# EAGLE library part CONNECTOR-8_?_* (library LM555-SHAYAN-NOORANI)
8 Pin Connector
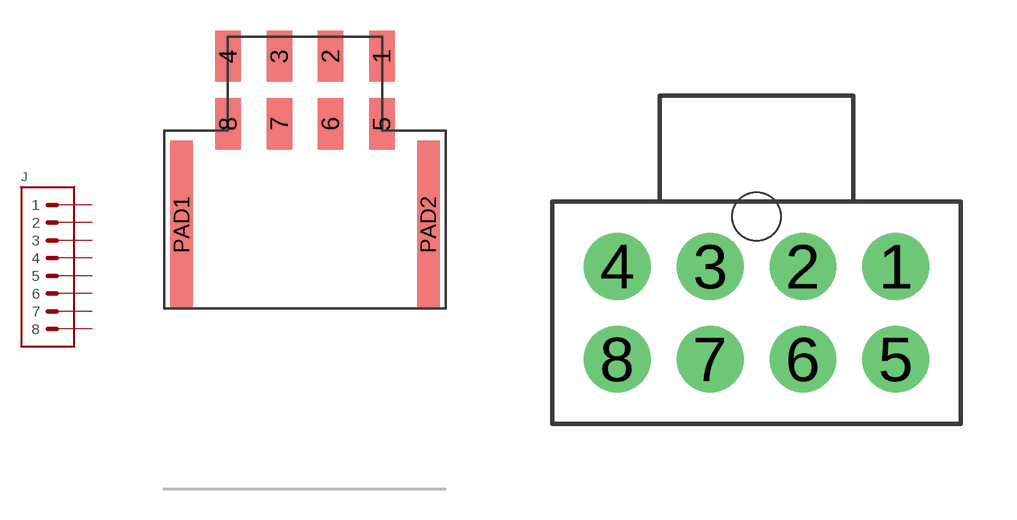
[diagram p9: symbol with the pads of MOLEX_NANOFIT_SMD_RIGHTANGLE_08; footprints MOLEX_NANOFIT_SMD_RIGHTANGLE_08, MOLEX_NANOFIT_PTH_08]

Designator prefix J

## CONNECTOR-8_NF_S_RA_BLACK (DKPN: 1054051308-ND; MANUFACTURER: Molex; MOPN: 538-105405-1308; MPN: 105405-1308)  [MOLEX_NANOFIT_SMD_RIGHTANGLE_08]
1  1  pas
2  2  pas
3  3  pas
4  4  pas
5  5  pas
6  6  pas
7  7  pas
8  8  pas

## CONNECTOR-8_NF_T_V_BLACK (DKPN: WM15063-ND; MANUFACTURER: Molex; MOPN: 538-105310-1308; MPN: 105310-1308), CONNECTOR-8_NF_T_V_NATURAL (DKPN: WM15077-ND; MANUFACTURER: Molex; MOPN: 538-105310-2308; MPN: 105310-2308)  [MOLEX_NANOFIT_PTH_08]
Pads as for MOLEX_NANOFIT_SMD_RIGHTANGLE_08

## CONNECTOR-8_μF_S_RA_ (DKPN: WM1834CT-ND; MANUFACTURER: Molex; MOPN: 538-43045-0811; MPN: 0430450811)  [MOLEX_MICROFIT_SMD_RIGHTANGLE_08_DUAL]
Pads as for MOLEX_NANOFIT_SMD_RIGHTANGLE_08

## CONNECTOR-8_μF_T_V_BLACK (DKPN: WM1798-ND; MANUFACTURER: Molex; MOPN: 538-43045-0814; MPN: 430450814)  [MOLEX_MICROFIT_PTH_VERTICAL_08_DUAL]
Pads as for MOLEX_NANOFIT_SMD_RIGHTANGLE_08

## CONNECTOR-8_S_S (DKPN: S7107-ND; MANUFACTURER: Sullins Connector Solutions; MPN: PPPC042LFBN-RC)  [FLEX_STACK_PTH_08_DUAL]
Pads as for MOLEX_NANOFIT_SMD_RIGHTANGLE_08

## Footprint MOLEX_NANOFIT_SMD_RIGHTANGLE_08 (pad centres in mm)
8 Pin Nano-Fit Vertical Header, PCB Mount, Dual Row Part <https://www.molex.com/molex/products/part-detail/pcb_headers/1054051208> Footprint <https://www.molex.com/pdm_docs/sd/1054051208_sd.pdf>
smd 1.24 x 2.5: 1 3.75,1.65; 2 1.25,1.65; 3 -1.25,1.65; 4 -3.75,1.65; 5 3.75,-1.65; 6 1.25,-1.65; 7 -1.25,-1.65; 8 -3.75,-1.65
smd 1.1 x 8.2: PAD1 -6.02,-6.58; PAD2 6.02,-6.58

## Footprint MOLEX_NANOFIT_PTH_08 (pad centres in mm)
8 Pin Nano-Fit™ Vertical Header, Through Hole, Dual Row Part <https://www.molex.com/molex/products/part-detail/pcb_headers/1053101208> Footprint <https://www.molex.com/pdm_docs/sd/1053101208_sd.pdf>
drill 1.2: 1 3.75,0; 2 1.25,0; 3 -1.25,0; 4 -3.75,0; 5 3.75,-2.5; 6 1.25,-2.5; 7 -1.25,-2.5; 8 -3.75,-2.5
hole 1.3 at 0,1.34

## Footprint MOLEX_MICROFIT_SMD_RIGHTANGLE_08_DUAL (pad centres in mm)
8 Pin Micro-Fit Right Angle Header, SMD, Dual Row Part <https://www.molex.com/molex/products/part-detail/pcb_headers/0430450811> Footprint <https://www.molex.com/pdm_docs/sd/430450811_sd.pdf> Plug Size <https://www.molex.com/pdm_docs/sd/430250800_sd.pdf> Solid line must not be visible on PCB if no cutout is desired. Dashed line is edge of mated connector.
smd 1.27 x 2.921: 1 4.5,5.474; 2 1.5,5.474; 3 -1.5,5.474; 4 -4.5,5.474; 5 4.5,10.097; 6 1.5,10.097; 7 -1.5,10.097; 8 -4.5,10.097
smd 3.429 x 1.651: PAD1 8.386,0; PAD2 -8.386,0

## Footprint MOLEX_MICROFIT_PTH_VERTICAL_08_DUAL (pad centres in mm)
8 Pin Micro-Fit Vertical Header, Through-Hole, Dual Row Part <https://www.molex.com/molex/products/part-detail/pcb_headers/0430450814> Footprint <https://www.molex.com/pdm_docs/sd/430450814_sd.pdf> Plug Size <https://www.molex.com/pdm_docs/sd/430250800_sd.pdf>
drill 1.067: 1 4.496,-2.997; 2 1.499,-2.997; 3 -1.499,-2.997; 4 -4.496,-2.997; 5 4.496,0; 6 1.499,0; 7 -1.499,0; 8 -4.496,0
hole 1.067 at 7.493,0.94
hole 1.067 at -7.493,0.94

## Footprint FLEX_STACK_PTH_08_DUAL (pad centres in mm)
drill 1.016: 1 -3.81,1.27; 2 -1.27,1.27; 3 1.27,1.27; 4 3.81,1.27; 5 -3.81,-1.27; 6 -1.27,-1.27; 7 1.27,-1.27; 8 3.81,-1.27